# Altium footprint library ESP32-S3.PcbLib: 1 footprints
Each footprint in its own frame and in the unit in brackets; x right, y up, seen from the top. Pads: shape width x height; smd on the part's side, far side on the other; paste and mask are expansions set on the pad; w line width, h text height; cw(c..) or ccw(c..) is an arc to the next point about the centre after c.
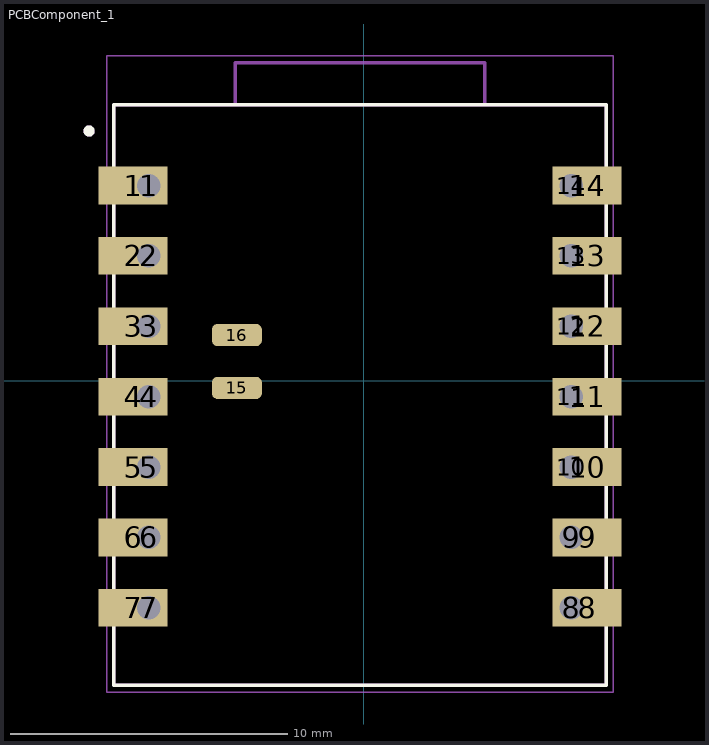
[diagram p0: the footprint, top view; thin cyan lines are the x and y axes]

## PCBComponent_1 [mil]
pads (30):
  rect 98.43x53.46 smd: 1(-327.48,277.5) 2(-327.48,177.5) 3(-327.48,77.5) 4(-327.48,-22.5) 5(-327.48,-122.5) 6(-327.48,-222.5) 7(-327.48,-322.5) 8(317.48,-322.5) 9(317.48,-222.5) 10(317.48,-122.5) 11(317.48,-22.5) 12(317.48,77.5) 13(317.48,177.5) 14(317.48,277.5)
  rect 53.46x53.46 hole 33.46: 1(-305,277.5)
  round 53.46 hole 33.46: 2(-305,177.5) 3(-305,77.5) 4(-305,-22.5) 5(-305,-122.5) 6(-305,-222.5) 7(-305,-322.5) 8(295,-322.5) 9(295,-222.5) 10(295,-122.5) 11(295,-22.5) 12(295,77.5) 13(295,177.5) 14(295,277.5)
  rrect50% 70.87x31.5 smd: 15(-180,-10) 16(-180,65)
Top Overlay:
  circle w7.87: c-390,355 r3.94
  lines w5: -355,-432.5 -355,392.5 345,392.5 345,-432.5 -355,-432.5
Mechanical 13:
  lines w5: -182.17,392.5 -355,392.5 -355,-432.5 345,-432.5 345,392.5 172.17,392.5 ; -182.17,392.5 172.17,392.5 ; -182.17,392.5 -182.17,451.95 172.17,451.95 172.17,392.5
  lines w7.87: -388.76,358.73 ccw(c-390,355) -386.06,355
Mechanical 15:
  lines w1.97: -364.84,-442.34 -364.84,461.79 354.84,461.79 354.84,-442.34 -364.84,-442.34
3D body "step_temp.STEP": height 165.75, standoff 0, extent -355,-434.37 345,450